# Altium footprint library UCC28220D.PcbLib: 1 footprints
Each footprint in its own frame and in the unit in brackets; x right, y up, seen from the top. Pads: shape width x height; smd on the part's side, far side on the other; paste and mask are expansions set on the pad; w line width, h text height; cw(c..) or ccw(c..) is an arc to the next point about the centre after c.
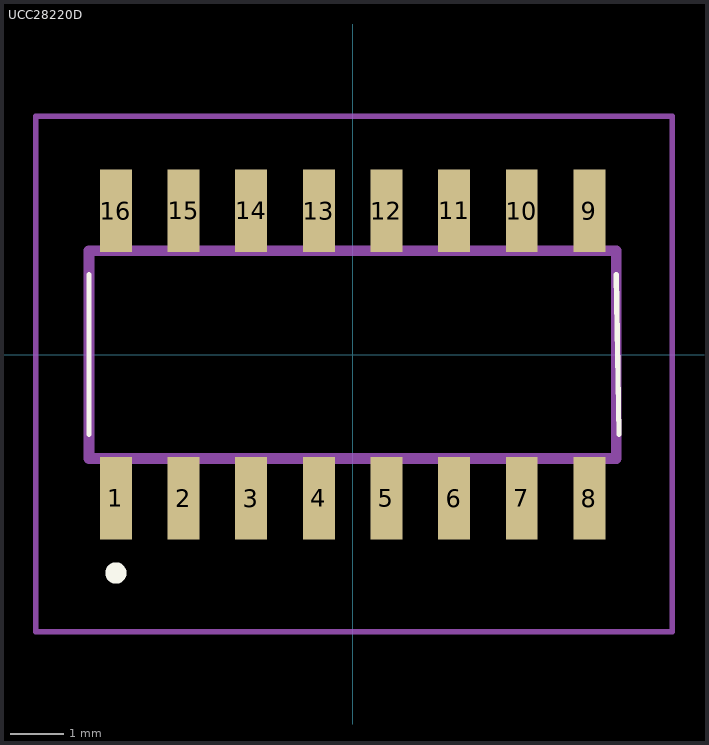
[diagram p0: the footprint, top view; thin cyan lines are the x and y axes]

## UCC28220D [mm]
pads (16):
  rect 0.6x1.55 smd: 1(-4.445,-2.7) 2(-3.175,-2.7) 3(-1.905,-2.7) 4(-0.635,-2.7) 5(0.635,-2.7) 6(1.905,-2.7) 7(3.175,-2.7) 8(4.445,-2.7) 9(4.445,2.7) 10(3.175,2.7) 11(1.905,2.7) 12(0.635,2.7) 13(-0.635,2.7) 14(-1.905,2.7) 15(-3.175,2.7) 16(-4.445,2.7)
Top Overlay:
  lines w0.1: -4.95,-1.5 -4.95,1.5 ; 4.95,1.5 5,-1.5
  lines w0.2: -4.445,-4.2 cw(c-4.445,-4.1) -4.445,-4 ; -4.445,-4.2 -4.445,-4.2 ; -4.445,-4.2 ccw(c-4.445,-4.1) -4.445,-4 ; -4.445,-4 -4.445,-4
Mechanical 15:
  lines w0.2: -4.95,-1.95 4.95,-1.95 4.95,1.95 -4.95,1.95 -4.95,-1.95
Mechanical 20:
  lines w0.1: -5.95,-5.2 6,-5.2 6,4.475 -5.95,4.475 -5.95,-5.2